# Altium footprint library Diodes.PcbLib: 22 footprints (part 1 of 2)
Each footprint in its own frame and in the unit in brackets; x right, y up, seen from the top. Pads: shape width x height; smd on the part's side, far side on the other; paste and mask are expansions set on the pad; w line width, h text height; cw(c..) or ccw(c..) is an arc to the next point about the centre after c.
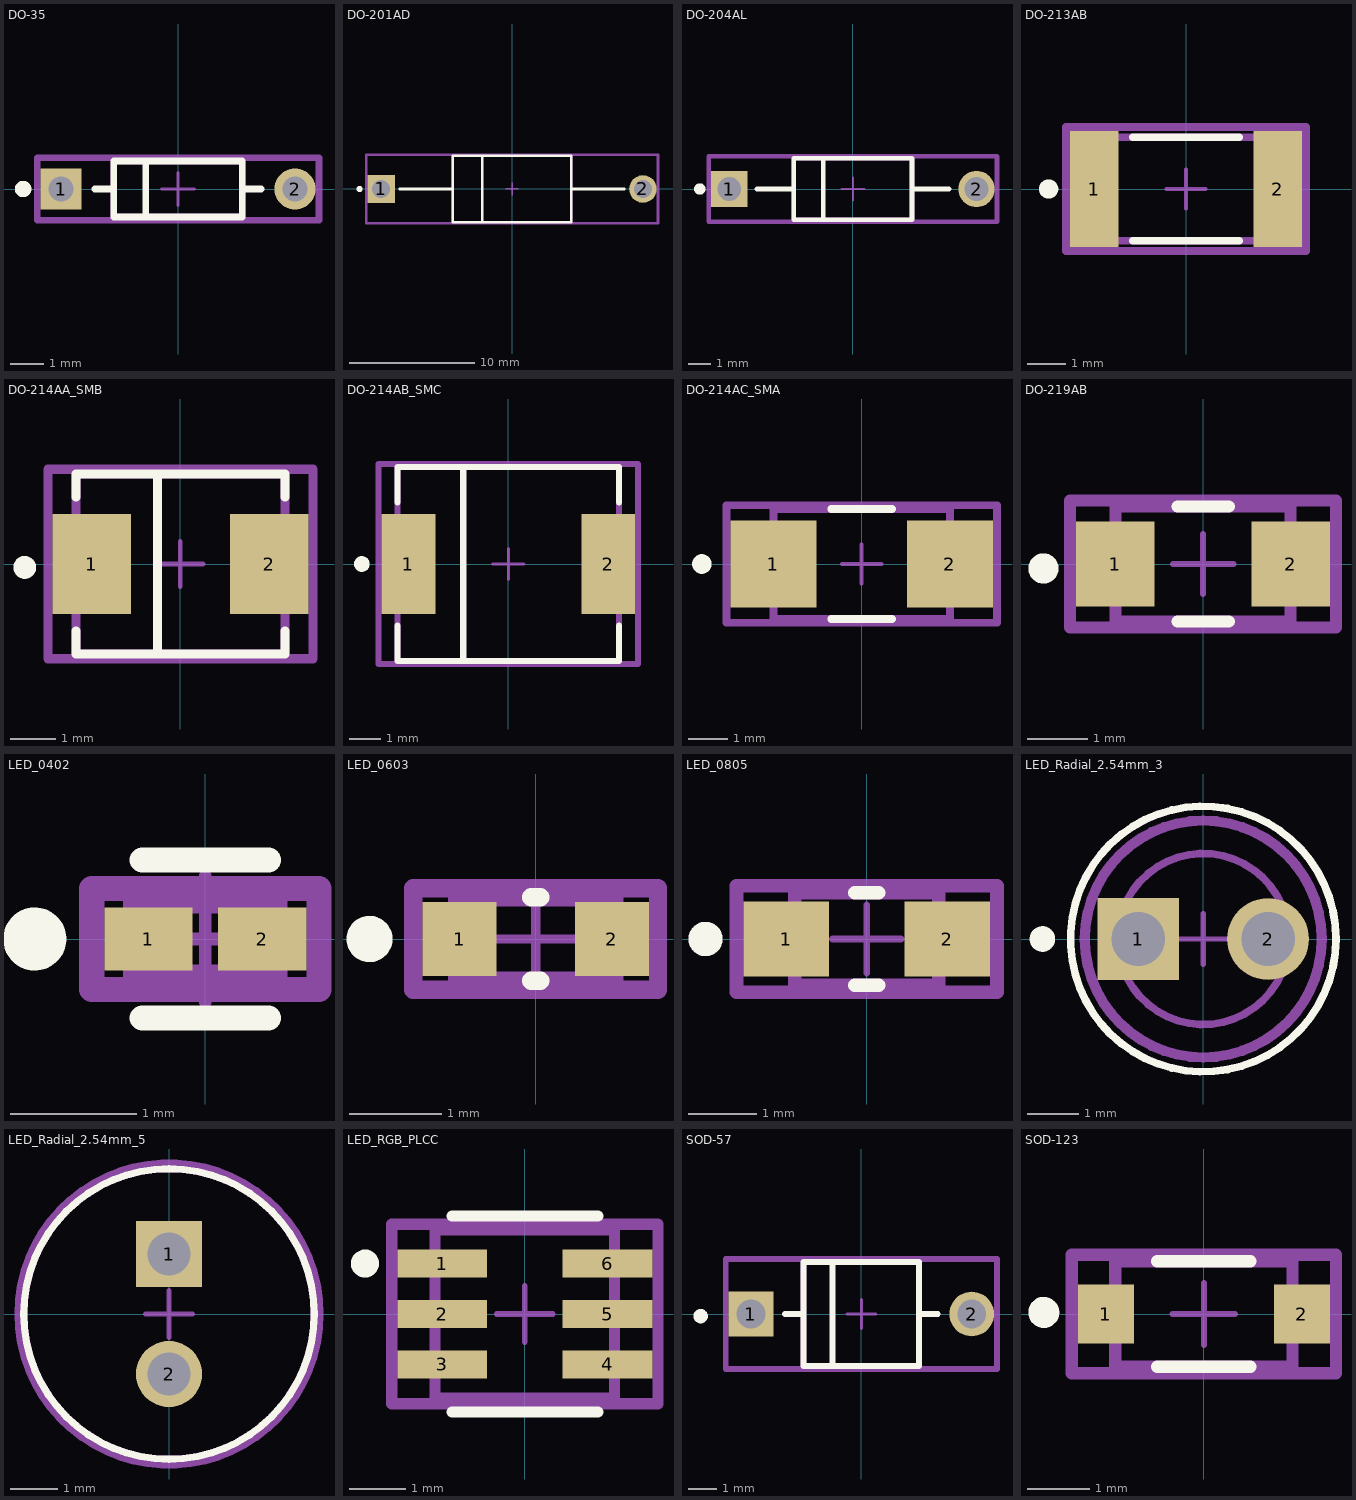
[diagram p0: the footprints below, top view; thin cyan lines are the x and y axes]

## DO-35 [mm]
pads (2):
  rect 1.25x1.25 hole 0.75 paste-2539.97 mask+0: 1(-3.55,0)
  round 1.25 hole 0.75 paste-2539.97 mask+0: 2(3.55,0)
Top Overlay:
  circle w0.25: c-4.699,0 r0.125
  lines w0.2: -2.525,0 -1.95,0 ; -0.975,-0.78 -0.975,0.78 ; 1.95,0 2.525,0 ; -1.95,-0.85 -1.95,0.85 1.95,0.85 1.95,-0.85 -1.95,-0.85
Top Assembly:
  lines w0.2: -4.275,-0.95 -4.275,0.95 4.275,0.95 4.275,-0.95 -4.275,-0.95
Top 3D Body:
  lines w0.2: -1.95,-0.85 -1.95,0.85 1.95,0.85 1.95,-0.85 -1.95,-0.85
Top Courtyard:
  lines w0.2: -4.275,-0.95 -4.275,0.95 4.275,0.95 4.275,-0.95 -4.275,-0.95
Top Component Center:
  lines w0.1: -0.5,0 0.5,0 ; 0,-0.5 0,0.5
3D body "Diode_Vishay_TZX3V6A-TR_eec.STEP": height 0.25, standoff 0, extent -4.275,-0.95 4.275,0.95

## DO-201AD [mm]
pads (2):
  rect 2.2x2.2 hole 1.45 paste-2539.97 mask+0: 1(-10.47,0)
  round 2.2 hole 1.45 paste-2539.97 mask+0: 2(10.47,0)
Top Overlay:
  circle w0.25: c-12.192,0 r0.125
  lines w0.2: -8.97,0 -4.75,0 ; -2.375,-2.58 -2.375,2.58 ; 4.75,0 8.97,0 ; -4.75,-2.65 4.75,-2.65 4.75,2.65 -4.75,2.65 -4.75,-2.65
Top Assembly:
  lines w0.2: -11.67,-2.75 11.67,-2.75 11.67,2.75 -11.67,2.75 -11.67,-2.75
Top 3D Body:
  lines w0.2: -4.75,-2.65 4.75,-2.65 4.75,2.65 -4.75,2.65 -4.75,-2.65
Top Courtyard:
  lines w0.2: -11.67,-2.75 11.67,-2.75 11.67,2.75 -11.67,2.75 -11.67,-2.75
Top Component Center:
  lines w0.1: -0.5,0 0.5,0 ; 0,-0.5 0,0.5
3D body "Diode_Diodes_Inc_1N5408G-T_eec.STEP": height 0.25, standoff 0, extent -11.67,-2.75 11.67,2.75

## DO-204AL [mm]
pads (2):
  rect 1.6x1.6 hole 1.05 paste-2539.97 mask+0: 1(-5.438,0)
  round 1.6 hole 1.05 paste-2539.97 mask+0: 2(5.438,0)
Top Overlay:
  circle w0.25: c-6.731,0 r0.125
  lines w0.2: -4.238,0 -2.6,0 ; -1.3,-1.28 -1.3,1.28 ; 2.6,0 4.238,0 ; -2.6,-1.35 2.6,-1.35 2.6,1.35 -2.6,1.35 -2.6,-1.35
Top Assembly:
  lines w0.2: -6.338,-1.45 6.338,-1.45 6.338,1.45 -6.338,1.45 -6.338,-1.45
Top 3D Body:
  lines w0.2: -2.6,-1.35 2.6,-1.35 2.6,1.35 -2.6,1.35 -2.6,-1.35
Top Courtyard:
  lines w0.2: -6.338,-1.45 6.338,-1.45 6.338,1.45 -6.338,1.45 -6.338,-1.45
Top Component Center:
  lines w0.1: -0.5,0 0.5,0 ; 0,-0.5 0,0.5
3D body "Diode_Vishay_1N5819-E3-54_eec.STEP": height 0.25, standoff 0, extent -6.338,-1.45 6.338,1.45

## DO-213AB [mm]
pads (2):
  rect 1.25x3 smd paste+0 mask+0: 1(-2.375,0) 2(2.375,0)
Top Overlay:
  circle w0.25: c-3.55,0 r0.125
  lines w0.2: -1.375,-1.335 1.375,-1.335 ; -1.375,1.335 1.375,1.335
Top Assembly:
  lines w0.2: -3.1,-1.6 -3.1,1.6 3.1,1.6 3.1,-1.6 -3.1,-1.6
Top 3D Body:
  lines w0.2: -2.6,-1.335 -2.6,1.335 2.6,1.335 2.6,-1.335 -2.6,-1.335
Top Courtyard:
  lines w0.2: -3.1,-1.6 -3.1,1.6 3.1,1.6 3.1,-1.6 -3.1,-1.6
Top Component Center:
  lines w0.1: -0.5,0 0.5,0 ; 0,-0.5 0,0.5
3D body "Diode_Vishay_BYM10-100-E3-96_eec.STEP": height 0.25, standoff 0, extent -3.1,-1.6 3.1,1.6

## DO-214AA_SMB [mm]
pads (2):
  rect 1.716x2.18 smd paste+0 mask+0: 1(-1.937,0) 2(1.937,0)
Top Overlay:
  circle w0.25: c-3.403,-0.074 r0.125
  lines w0.2: -2.285,-1.465 -2.285,-1.97 2.285,-1.97 2.285,-1.465 ; -2.285,1.465 -2.285,1.97 2.285,1.97 2.285,1.465 ; -0.5,-1.9 -0.5,1.9
Top Assembly:
  lines w0.2: -2.895,-2.07 -2.895,2.07 2.895,2.07 2.895,-2.07 -2.895,-2.07
Top 3D Body:
  lines w0.2: -2.285,-1.97 -2.285,1.97 2.285,1.97 2.285,-1.97 -2.285,-1.97
Top Courtyard:
  lines w0.2: -2.895,-2.07 -2.895,2.07 2.895,2.07 2.895,-2.07 -2.895,-2.07
Top Component Center:
  lines w0.1: -0.5,0 0.5,0 ; 0,-0.5 0,0.5
3D body "Diode_Vishay_VS-20BQ030-M3-5BT_eec.STEP": height 0.25, standoff 0, extent -2.895,-2.07 2.895,2.07

## DO-214AB_SMC [mm]
pads (2):
  rect 1.72x3.2 smd paste+0 mask+0: 1(-3.205,0) 2(3.205,0)
Top Overlay:
  circle w0.25: c-4.7,0 r0.125
  lines w0.2: -3.555,-1.975 -3.555,-3.11 3.555,-3.11 3.555,-1.975 ; -3.555,1.975 -3.555,3.11 3.555,3.11 3.555,1.975 ; -1.45,-3 -1.45,3
Top Assembly:
  lines w0.2: -4.165,-3.21 4.165,-3.21 4.165,3.21 -4.165,3.21 -4.165,-3.21
Top 3D Body:
  lines w0.2: -3.555,-3.11 3.555,-3.11 3.555,3.11 -3.555,3.11 -3.555,-3.11
Top Courtyard:
  lines w0.2: -4.165,-3.21 4.165,-3.21 4.165,3.21 -4.165,3.21 -4.165,-3.21
Top Component Center:
  lines w0.1: -0.5,0 0.5,0 ; 0,-0.5 0,0.5
3D body "Diode_Vishay_SSC54-E3-57T_eec.STEP": height 0.25, standoff 0, extent -4.165,-3.21 4.165,3.21

## DO-214AC_SMA [mm]
pads (2):
  rect 2.2x2.21 smd paste+0 mask+0: 1(-2.25,0) 2(2.25,0)
Top Overlay:
  circle w0.25: c-4.075,0 r0.125
  lines w0.2: -0.775,-1.4 0.775,-1.4 ; -0.775,1.4 0.775,1.4
Top Assembly:
  lines w0.2: -3.45,-1.5 -3.45,1.5 3.45,1.5 3.45,-1.5 -3.45,-1.5
Top 3D Body:
  lines w0.2: -2.25,-1.4 -2.25,1.4 2.25,1.4 2.25,-1.4 -2.25,-1.4
Top Courtyard:
  lines w0.2: -3.45,-1.5 -3.45,1.5 3.45,1.5 3.45,-1.5 -3.45,-1.5
Top Component Center:
  lines w0.1: -0.5,0 0.5,0 ; 0,-0.5 0,0.5
3D body "Diode_Vishay_BZG05C5V6-M3-08_eec.STEP": height 0.25, standoff 0, extent -3.45,-1.5 3.45,1.5

## DO-219AB [mm]
pads (2):
  rect 1.3x1.4 smd paste+0 mask+0: 1(-1.45,0) 2(1.45,0)
Top Overlay:
  circle w0.25: c-2.641,-0.074 r0.125
  lines w0.2: -0.425,-0.95 0.425,-0.95 ; -0.425,0.95 0.425,0.95
Top Assembly:
  lines w0.2: -2.2,-1.05 -2.2,1.05 2.2,1.05 2.2,-1.05 -2.2,-1.05
Top 3D Body:
  lines w0.2: -1.45,-0.95 -1.45,0.95 1.45,0.95 1.45,-0.95 -1.45,-0.95
Top Courtyard:
  lines w0.2: -2.2,-1.05 -2.2,1.05 2.2,1.05 2.2,-1.05 -2.2,-1.05
Top Component Center:
  lines w0.1: -0.5,0 0.5,0 ; 0,-0.5 0,0.5
3D body "Diode_Vishay_SMF5V0A-E3-08_eec.STEP": height 0.25, standoff 0, extent -2.2,-1.05 2.2,1.05

## LED_0402 [mm]
pads (2):
  rect 0.7x0.5 smd paste+0 mask+0: 1(-0.45,0) 2(0.45,0)
Top Overlay:
  circle w0.25: c-1.35,0 r0.125
  lines w0.2: -0.5,-0.625 0.5,-0.625 ; -0.5,0.625 0.5,0.625
Top Assembly:
  lines w0.2: -0.9,-0.4 -0.9,0.4 0.9,0.4 0.9,-0.4 -0.9,-0.4
Top 3D Body:
  lines w0.2: -0.55,-0.3 -0.55,0.3 0.55,0.3 0.55,-0.3 -0.55,-0.3
Top Courtyard:
  lines w0.2: -0.9,-0.4 -0.9,0.4 0.9,0.4 0.9,-0.4 -0.9,-0.4
Top Component Center:
  lines w0.1: -0.5,0 0.5,0 ; 0,-0.5 0,0.5
3D body "_Kingbright_APHHS1005LZGCK-V_eec.STEP": height 0.25, standoff 0, extent -0.9,-0.4 0.9,0.4

## LED_0603 [mm]
pads (2):
  rect 0.8x0.8 smd paste+0 mask+0: 1(-0.825,0) 2(0.825,0)
Top Overlay:
  circle w0.25: c-1.8,0 r0.125
  lines w0.2: -0.05,-0.45 0.05,-0.45 ; -0.05,0.45 0.05,0.45
Top Assembly:
  lines w0.2: -1.325,-0.55 1.325,-0.55 1.325,0.55 -1.325,0.55 -1.325,-0.55
Top 3D Body:
  lines w0.2: -0.85,-0.45 0.85,-0.45 0.85,0.45 -0.85,0.45 -0.85,-0.45
Top Courtyard:
  lines w0.2: -1.325,-0.55 1.325,-0.55 1.325,0.55 -1.325,0.55 -1.325,-0.55
Top Component Center:
  lines w0.1: -0.5,0 0.5,0 ; 0,-0.5 0,0.5
3D body "Diode_Kingbright_APT1608ZGCK_eec.STEP": height 0.25, standoff 0, extent -1.325,-0.55 1.325,0.55

## LED_0805 [mm]
pads (2):
  rect 1.25x1.1 smd paste+0 mask+0: 1(-1.175,0) 2(1.175,0)
Top Overlay:
  circle w0.25: c-2.35,0 r0.125
  lines w0.2: -0.175,-0.675 0.175,-0.675 ; -0.175,0.675 0.175,0.675
Top Assembly:
  lines w0.2: -1.9,-0.775 1.9,-0.775 1.9,0.775 -1.9,0.775 -1.9,-0.775
  text ".Designator" at 0,0 h1
Top 3D Body:
  lines w0.2: -1.05,-0.675 1.05,-0.675 1.05,0.675 -1.05,0.675 -1.05,-0.675
Top Courtyard:
  lines w0.2: -1.9,-0.775 1.9,-0.775 1.9,0.775 -1.9,0.775 -1.9,-0.775
Top Component Center:
  lines w0.1: -0.5,0 0.5,0 ; 0,-0.5 0,0.5
3D body "Diode_Kingbright_APT2012LZGCK_eec.STEP": height 0.25, standoff 0, extent -1.9,-0.775 1.9,0.775

## LED_Radial_2.54mm_3 [mm]
pads (2):
  rect 1.6x1.6 hole 1.05 paste-2539.97 mask+0: 1(-1.27,0)
  round 1.6 hole 1.05 paste-2539.97 mask+0: 2(1.27,0)
Top Overlay:
  circle w0.15: c0,0 r2.6
  circle w0.25: c-3.15,0 r0.125
Top 3D Body:
  circle w0.15: c0,0 r1.675
Top Courtyard:
  lines w0.2: -2.319,0 ccw(c0,0) 2.319,0 ccw(c0,0) -2.319,0
Top Component Center:
  lines w0.1: -0.5,0 0.5,0 ; 0,-0.5 0,0.5
3D body "Diode_Vishay_TLLG4401_eec.STEP": height 0.25, standoff 0, extent -2.319,-2.319 2.319,2.319

## LED_Radial_2.54mm_5 [mm]
pads (2):
  rect 1.4x1.4 hole 0.9 paste-2539.97 mask+0: 1(0,1.27)
  round 1.4 hole 0.9 paste-2539.97 mask+0: 2(0,-1.27)
Top Overlay:
  circle w0.15: c0,0 r3.075
Top 3D Body:
  circle w0.15: c0,0 r3.075
Top Courtyard:
  lines w0.2: -3.175,0 cw(c0,0) 3.175,0 cw(c0,0) -3.175,0
Top Component Center:
  lines w0.1: -0.5,0 0.5,0 ; 0,-0.5 0,0.5
3D body "Diode_Kingbright_L-57IID_eec.STEP": height 0.25, standoff 0, extent -3.175,-3.175 3.175,3.175

## LED_RGB_PLCC [mm]
pads (6):
  rect 1.6x0.5 smd paste+0 mask+0: 1(-1.475,0.9) 2(-1.475,0) 3(-1.475,-0.9) 4(1.475,-0.9) 5(1.475,0) 6(1.475,0.9)
Top Overlay:
  circle w0.25: c-2.85,0.9 r0.125
  lines w0.2: -1.3,-1.75 1.3,-1.75 ; -1.3,1.75 1.3,1.75
Top Assembly:
  lines w0.2: -2.375,-1.6 2.375,-1.6 2.375,1.6 -2.375,1.6 -2.375,-1.6
Top 3D Body:
  lines w0.2: -1.6,-1.5 1.6,-1.5 1.6,1.5 -1.6,1.5 -1.6,-1.5
Top Courtyard:
  lines w0.2: -2.375,-1.6 2.375,-1.6 2.375,1.6 -2.375,1.6 -2.375,-1.6
Top Component Center:
  lines w0.1: -0.5,0 0.5,0 ; 0,-0.5 0,0.5
3D body "Diode_Broadcom_ASMT-YTD7-0AA02_eec.STEP": height 0.25, standoff 0, extent -2.375,-1.6 2.375,1.6

## SOD-57 [mm]
pads (2):
  rect 1.55x1.55 hole 1 paste-2539.97 mask+0: 1(-3.82,0)
  round 1.55 hole 1 paste-2539.97 mask+0: 2(3.82,0)
Top Overlay:
  circle w0.25: c-5.562,-0.074 r0.125
  lines w0.2: -2.645,0 -2,0 ; -1,-1.73 -1,1.73 ; 2,0 2.645,0 ; -2,-1.8 2,-1.8 2,1.8 -2,1.8 -2,-1.8
Top Assembly:
  lines w0.2: -4.695,-1.9 4.695,-1.9 4.695,1.9 -4.695,1.9 -4.695,-1.9
Top 3D Body:
  lines w0.2: -2,-1.8 2,-1.8 2,1.8 -2,1.8 -2,-1.8
Top Courtyard:
  lines w0.2: -4.695,-1.9 4.695,-1.9 4.695,1.9 -4.695,1.9 -4.695,-1.9
Top Component Center:
  lines w0.1: -0.5,0 0.5,0 ; 0,-0.5 0,0.5
3D body "Diode_Vishay_BYV26E-TAP_eec.STEP": height 0.25, standoff 0, extent -4.695,-1.9 4.695,1.9

## SOD-123 [mm]
pads (2):
  rect 0.9x0.95 smd paste+0 mask+0: 1(-1.575,0) 2(1.575,0)
Top Overlay:
  circle w0.25: c-2.575,0.025 r0.125
  lines w0.2: -0.75,-0.85 0.75,-0.85 ; -0.75,0.85 0.75,0.85
Top Assembly:
  lines w0.2: -2.125,-0.95 2.125,-0.95 2.125,0.95 -2.125,0.95 -2.125,-0.95
Top 3D Body:
  lines w0.2: -1.425,-0.85 1.425,-0.85 1.425,0.85 -1.425,0.85 -1.425,-0.85
Top Courtyard:
  lines w0.2: -2.125,-0.95 2.125,-0.95 2.125,0.95 -2.125,0.95 -2.125,-0.95
Top Component Center:
  lines w0.1: -0.5,0 0.5,0 ; 0,-0.5 0,0.5
3D body "Diode_Diodes_Inc_MMSZ5245B-7-F_eec.STEP": height 0.25, standoff 0, extent -2.125,-0.95 2.125,0.95